# Altium schematic symbol library SCH - DRIVER - LED - TI LM3404MR.SchLib: 1 symbol
Pins are listed as number, name and electrical type; pins without a type are passive.

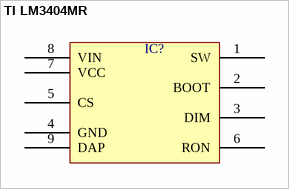
[diagram p0: symbol TI LM3404MR]

## TI LM3404MR
designator IC?  (value not drawn)
pins: 1 SW, 2 BOOT, 3 DIM, 4 GND, 5 CS, 6 RON, 7 VCC, 8 VIN, 9 DAP